# Altium schematic symbol library Radolovic_SCH_Library.SchLib: 25 symbols
Pins are listed as number, name and electrical type; pins without a type are passive.

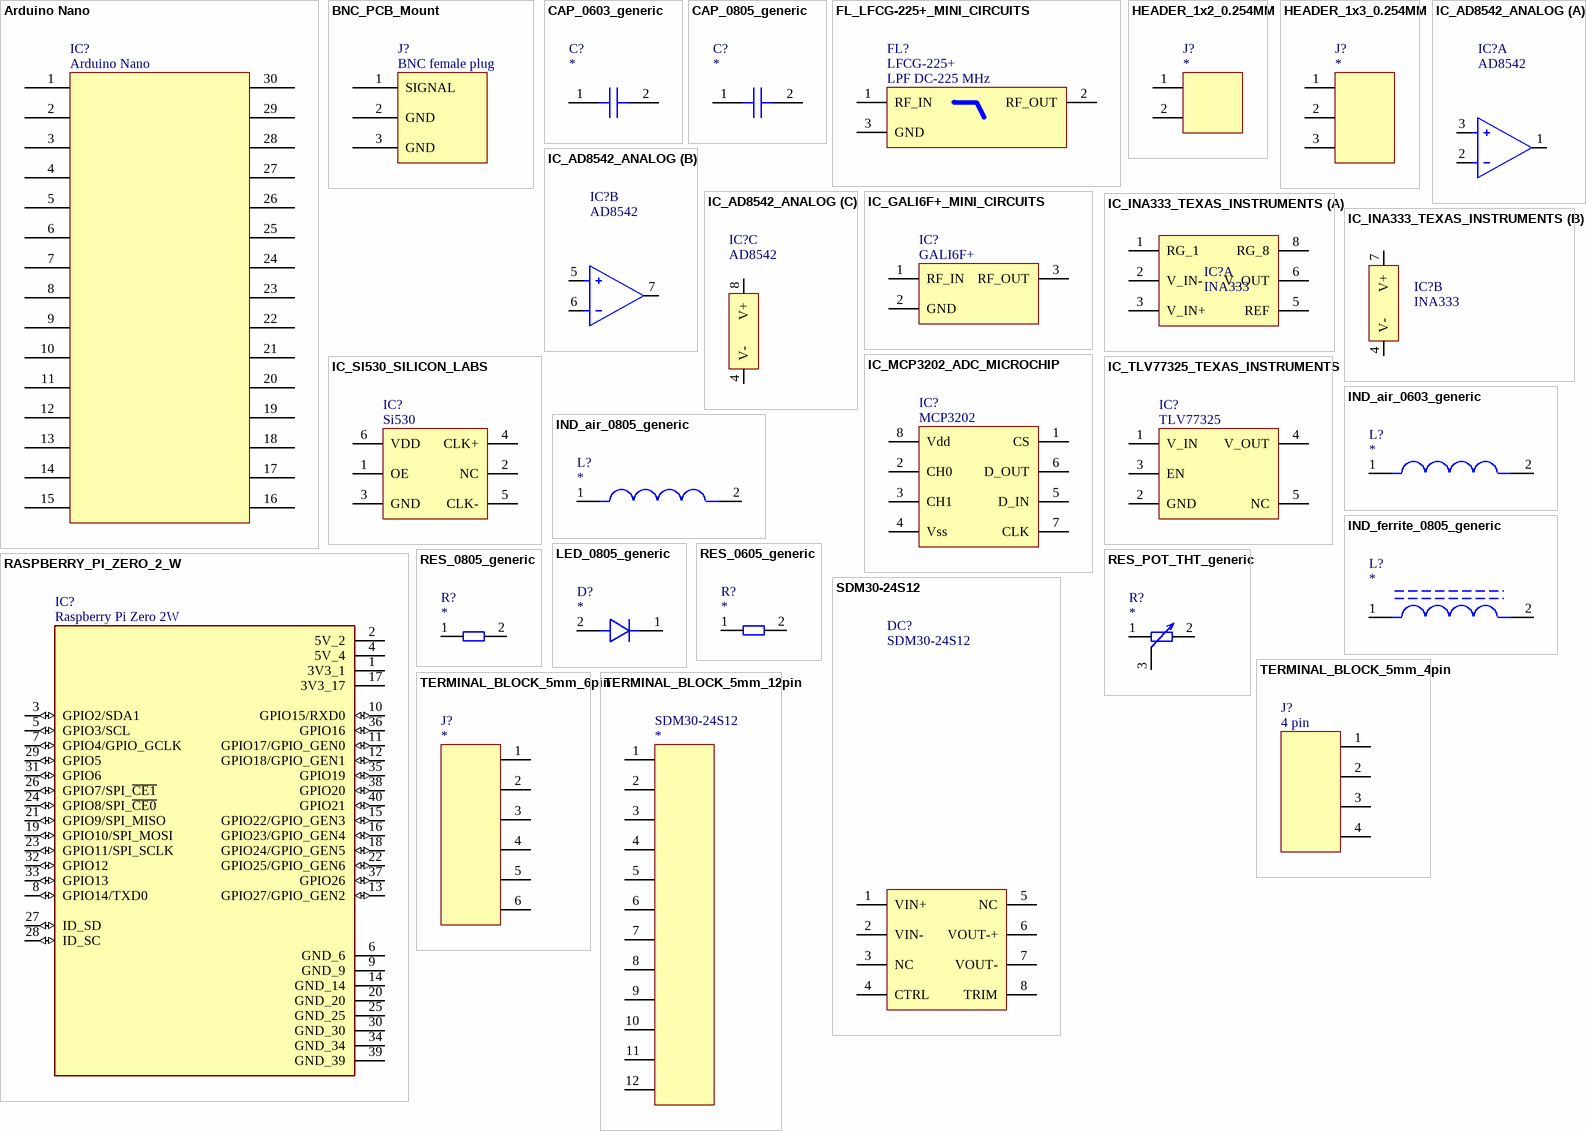
[diagram p0: symbols Arduino Nano to TERMINAL_BLOCK_5mm_12pin]

## Arduino Nano
designator IC?
footprint Arduino Nano
pins: 1, 2, 3, 4, 5, 6, 7, 8, 9, 10, 11, 12, 13, 14, 15, 16, 17, 18, 19, 20, 21, 22, 23, 24, 25, 26, 27, 28, 29, 30

## BNC_PCB_Mount
designator J?, comment BNC female plug
footprint BNC_ELMATIS
pins: 1 SIGNAL, 2 GND, 3 GND

## CAP_0603_generic
designator C?
Part Number: *; Value: *; Manufacturer: *; Supplier: *; Order Code: *
footprint 0603_CAP
pins: 1, 2

## CAP_0805_generic
designator C?
Part Number: *; Value: *; Manufacturer: *; Supplier: *; Order Code: *
footprint 0805 Resistor - IPC A
pins: 1, 2

## FL_LFCG-225+_MINI_CIRCUITS
designator FL?, comment LFCG-225+
LFCG-225+ Low Pass Filter
pins: 1 RF_IN, 2 RF_OUT, 3 GND
text: LPF DC-225 MHz

## HEADER_1x2_0.254MM
designator J?
Part Number: *; Value: *; Manufacturer: *; Supplier: *; Order Code: *
pins: 1, 2

## HEADER_1x3_0.254MM
designator J?
Part Number: *; Value: *; Manufacturer: *; Supplier: *; Order Code: *
footprint 3 pin header
pins: 1, 2, 3

## IC_AD8542_ANALOG
designator IC?, comment AD8542
Operational Amplifiers - Op Amps DUAL, LOW PWR RAIL/RAIL OP AMP / AD8542ARZ / SOIC-8
footprint AD8542ARZ
part A pins: 1 OUT_A, 2 V_IN_A-, 3 V_IN_A+
part B pins: 5 V_IN_B+, 6 V_IN_B-, 7 OUT_B
part C pins: 4 V-, 8 V+

## IC_GALI6F+_MINI_CIRCUITS
designator IC?, comment GALI6F+
RF Amplifier ML AMPL / SURF MT / RoHS
footprint IC_GALI6F+_MINI_CIRCUITS (RF Amplifier ML AMPL / SURF MT / RoHS)
pins: 1 RF_IN, 2 GND, 3 RF_OUT

## IC_INA333_TEXAS_INSTRUMENTS
designator IC?, comment INA333
Instrumentation Amplifiers Lo Pwr Prec Inst Amp
footprint INA333AIDGKR
part A pins: 1 RG_1, 2 V_IN-, 3 V_IN+, 5 REF, 6 V_OUT, 8 RG_8
part B pins: 4 V-, 7 V+

## IC_MCP3202_ADC_MICROCHIP
designator IC?, comment MCP3202
footprint MCP3202-CI_SN (MCP3202-CI_SN / SOIC-8)
pins: 1 CS, 2 CH0, 3 CH1, 4 Vss, 5 D_IN, 6 D_OUT, 7 CLK, 8 Vdd

## IC_SI530_SILICON_LABS
designator IC?, comment Si530
pins: 1 OE, 2 NC, 3 GND, 4 CLK+, 5 CLK-, 6 VDD

## IC_TLV77325_TEXAS_INSTRUMENTS
designator IC?, comment TLV77325
LDO Voltage Regulators 300-mA high-PSRR low -IQ low-dropout regulator
footprint IC_TLV77325PDBVR_TEXAS_INSTRUMENTS (LDO Voltage Regulators 300-mA high-PSRR low -IQ low-dropout regulator)
pins: 1 V_IN, 2 GND, 3 EN, 4 V_OUT, 5 NC

## IND_air_0603_generic
designator L?
Part Number: *; Value: *; Manufacturer: *; Supplier: *; Order Code: *
footprint 0603_CAP
pins: 1, 2

## IND_air_0805_generic
designator L?
Part Number: *; Value: *; Manufacturer: *; Supplier: *; Order Code: *
footprint 0805 Resistor - IPC A
pins: 1, 2

## IND_ferrite_0805_generic
designator L?
Part Number: *; Value: *; Manufacturer: *; Supplier: *; Order Code: *
footprint 0805 Resistor - IPC A
pins: 1, 2

## LED_0805_generic
designator D?
Part Number: *; Value: *; Manufacturer: *; Supplier: *; Order Code: *
footprint 0805 Resistor - IPC A
pins: 1 Cathode, 2 Anode

## RASPBERRY_PI_ZERO_2_W
designator IC?, comment Raspberry Pi Zero 2W
At the heart of Raspberry Pi Zero 2 W is RP3A0, a custom-built system-in-package designed by Raspberry Pi in the UK.; SnapEDA_Link: https://www.snapeda.com/parts/RASPBERRY%20PI%20ZERO%202%20W/Raspberry+Pi/view-part/?ref=snap; Package: None; Value: *; MF: Raspberry Pi; MP: RASPBERRY PI ZERO 2 W; Check_prices: https://www.snapeda.com/parts/RASPBERRY%20PI%20ZERO%202%20W/Raspberry+Pi/view-part/?ref=eda
footprint RASPBERRY_PI_ZERO_2_W
pins: 1 3V3_1 (power), 2 5V_2 (power), 3 GPIO2/SDA1 (io), 4 5V_4 (power), 5 GPIO3/SCL (io), 6 GND_6 (power), 7 GPIO4/GPIO_GCLK (io), 8 GPIO14/TXD0 (io), 9 GND_9 (power), 10 GPIO15/RXD0 (io), 11 GPIO17/GPIO_GEN0 (io), 12 GPIO18/GPIO_GEN1 (io), 13 GPIO27/GPIO_GEN2 (io), 14 GND_14 (power), 15 GPIO22/GPIO_GEN3 (io), 16 GPIO23/GPIO_GEN4 (io), 17 3V3_17 (power), 18 GPIO24/GPIO_GEN5 (io), 19 GPIO10/SPI_MOSI (io), 20 GND_20 (power), 21 GPIO9/SPI_MISO (io), 22 GPIO25/GPIO_GEN6 (io), 23 GPIO11/SPI_SCLK (io), 24 GPIO8/SPI_~{CE0} (io), 25 GND_25 (power), 26 GPIO7/SPI_~{CE1} (io), 27 ID_SD (io), 28 ID_SC (io), 29 GPIO5 (io), 30 GND_30 (power), 31 GPIO6 (io), 32 GPIO12 (io), 33 GPIO13 (io), 34 GND_34 (power), 35 GPIO19 (io), 36 GPIO16 (io), 37 GPIO26 (io), 38 GPIO20 (io), 39 GND_39 (power), 40 GPIO21 (io)

## RES_0605_generic
designator R?
Part Number: *; Value: *; Manufacturer: *; Supplier: *; Order Code: *
footprint 0603_RESISTOR
pins: 1, 2

## RES_0805_generic
designator R?
Part Number: *; Value: *; Manufacturer: *; Supplier: *; Order Code: *
footprint 0805 Resistor - IPC A
pins: 1, 2

## RES_POT_THT_generic
designator R?
Part Number: *; Value: *; Manufacturer: *; Supplier: *; Order Code: *
footprint 3 pin header
pins: 1, 2, 3

## SDM30-24S12
designator DC?
Isolated DC/DC Converters - Through Hole 30W 24Vin 12Vout 2.5A; Manufacturer: Mean Well; Part Number: SDM30-24S12; Value: SDM30-24S12; Supplier: *; Order Code: *
footprint SDM30-24S12
pins: 1 VIN+, 2 VIN-, 3 NC, 4 CTRL, 5 NC, 6 VOUT-+, 7 VOUT-, 8 TRIM

## TERMINAL_BLOCK_5mm_4pin
designator J?, comment 4 pin
Part Number: *; Value: 4 pin; Manufacturer: *; Supplier: *; Order Code: *
footprint 4 pin terminal 5 mm
pins: 1, 2, 3, 4

## TERMINAL_BLOCK_5mm_6pin
designator J?
Part Number: *; Value: *; Manufacturer: *; Supplier: *; Order Code: *
footprint 6 pin terminal 5 mm (6 pin terminal block 5 mm)
pins: 1, 2, 3, 4, 5, 6

## TERMINAL_BLOCK_5mm_12pin
designator SDM30-24S12
Part Number: *; Value: *; Manufacturer: *; Supplier: *; Order Code: *
footprint 12 pin terminal 5mm (12 pin terminal block 5 mm)
pins: 1, 2, 3, 4, 5, 6, 7, 8, 9, 10, 11, 12